# EAGLE library part MICROCLASP-20-DUAL (library Molex-Aaron_2)
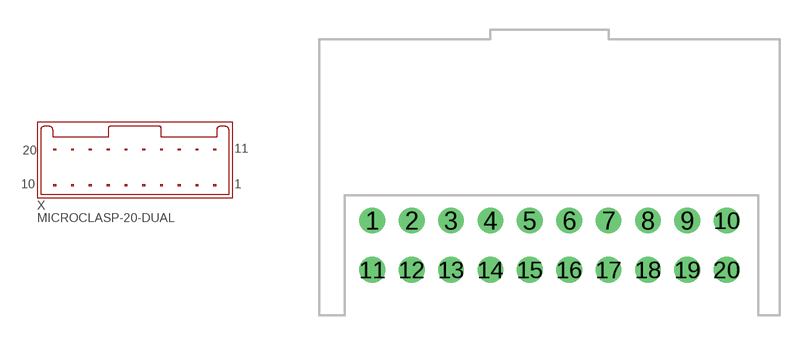
[diagram p13: symbol with the pads of MICROCLASP-20-DUAL-RA; footprint MICROCLASP-20-DUAL-RA]

Designator prefix X

## MICROCLASP-20-DUAL-RA  [MICROCLASP-20-DUAL-RA]
1  1
2  2
3  3
4  4
5  5
6  6
7  7
8  8
9  9
10  10
11  11
12  12
13  13
14  14
15  15
16  16
17  17
18  18
19  19
20  20

## Footprint MICROCLASP-20-DUAL-RA (pad centres in mm)
Molex MicroClasp 20pos RA header - 55955-2030 no links because I'm in the car
drill 0.8 round: 1 -9,0; 2 -7,0; 3 -5,0; 4 -3,0; 5 -1,0; 6 1,0; 7 3,0; 8 5,0; 9 7,0; 10 9,0; 11 -9,-2.5; 12 -7,-2.5; 13 -5,-2.5; 14 -3,-2.5; 15 -1,-2.5; 16 1,-2.5; 17 3,-2.5; 18 5,-2.5; 19 7,-2.5; 20 9,-2.5